# EAGLE library part PHNX_4P_508 (library eagleparts)
https://www.digikey.com/en/products/detail/phoenix-contact/1017505/9346606 DigiKey 277-17516-ND
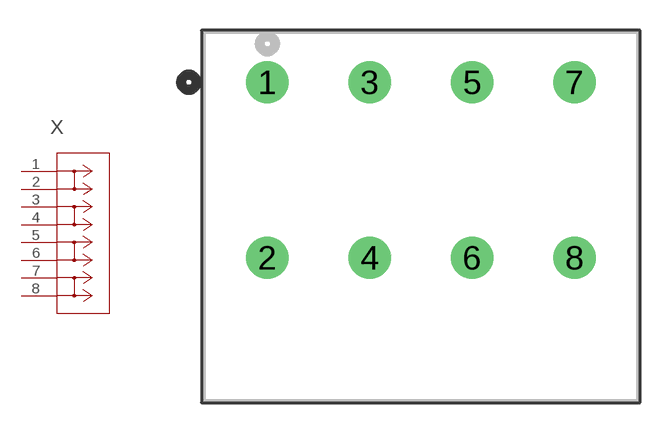
[diagram p0: symbol with the pads of PHNX_4P_508; footprint PHNX_4P_508]

Designator prefix X

## PHNX_4P_508CONN_1017493 (COPYRIGHT: Copyright (C) 2023 Ultra Librarian. All rights reserved.; MANUFACTURER_PART_NUMBER: 1017505; MFR_NAME: Phoenix Contact)  [PHNX_4P_508]
1  1  pas
2  2  pas
3  3  pas
4  4  pas
5  5  pas
6  6  pas
7  7  pas
8  8  pas

## Footprint PHNX_4P_508 (pad centres in mm)
drill 1.397 pad 1.905: 1 -15.24,8.7; 2 -15.24,0; 3 -10.16,8.7; 4 -10.16,0; 5 -5.08,8.7; 6 -5.08,0; 7 0,8.7; 8 0,0